# Altium footprint library preamp.PcbLib: 26 footprints (part 1 of 2)
Each footprint in its own frame and in the unit in brackets; x right, y up, seen from the top. Pads: shape width x height; smd on the part's side, far side on the other; paste and mask are expansions set on the pad; w line width, h text height; cw(c..) or ccw(c..) is an arc to the next point about the centre after c.
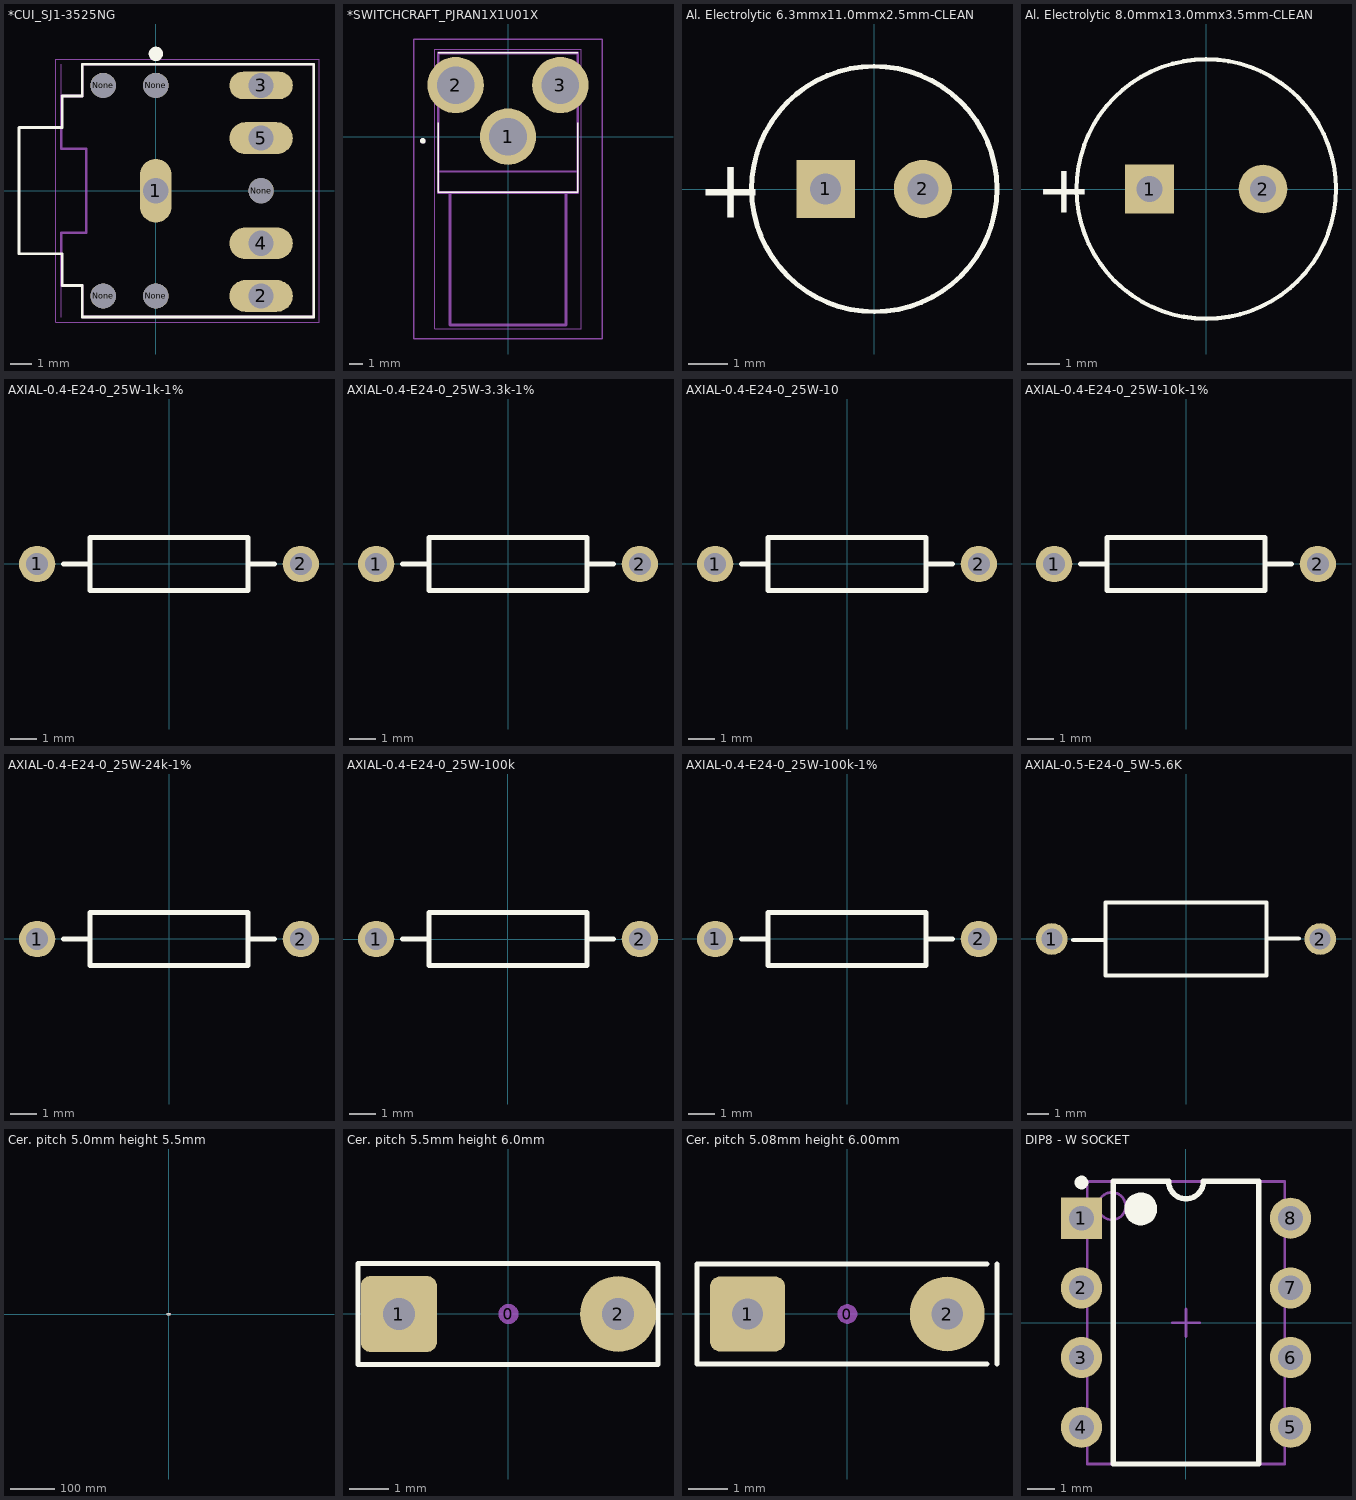
[diagram p0: the footprints below, top view; thin cyan lines are the x and y axes]

## *CUI_SJ1-3525NG [mm]
pads (10):
  oval 1.508x3.016 hole 1.2: 1(0,0)
  oval 3.016x1.508 hole 1.2: 2(5,-5) 4(5,-2.5) 5(5,2.5)
  oval 3.016x1.308 hole 1.2: 3(5,5)
  round 1.2 hole 1.2 unplated: None(-2.5,-5) None(-2.5,5) None(0,-5) None(0,5) None(5,0)
Top Overlay:
  circle w0.34: c0,6.5 r0.17
  lines w0.127: -6.5,-3 -6.5,3 ; -6.477,-3 -4.516,-3 ; -6.477,3 -4.516,3 ; -4.438,-4.5 -4.438,-3 ; -4.438,3 -4.438,4.5 ; -4.4,-4.5 -3.5,-4.5 -3.5,-6 7.5,-6 7.5,6 -3.5,6 -3.5,4.5 -4.4,4.5
Mechanical 1:
  lines w0: -4.5,-6 -4.5,-2 -3.3,-2 -3.3,2 -4.5,2 -4.5,6 ; -0.4,-0.75 0.4,-0.75 0.4,0.75 -0.4,0.75 -0.4,-0.75 ; 4.25,-5.4 4.25,-4.6 5.75,-4.6 5.75,-5.4 4.25,-5.4 ; 4.25,-2.9 4.25,-2.1 5.75,-2.1 5.75,-2.9 4.25,-2.9 ; 4.25,2.1 4.25,2.9 5.75,2.9 5.75,2.1 4.25,2.1 ; 4.25,4.6 4.25,5.4 5.75,5.4 5.75,4.6 4.25,4.6
Mechanical 4:
  lines w0.127: -4.5,-4.5 -4.5,-2 ; -4.5,-4.5 -3.5,-4.5 ; -4.5,-4.5 -4.5,-2 ; -4.5,-4.5 -3.5,-4.5 ; -4.5,-2 -3.3,-2 ; -4.5,-2 -3.3,-2 ; -4.5,2 -4.5,4.5 ; -4.5,2 -3.3,2 ; -4.5,2 -4.5,4.5 ; -4.5,2 -3.3,2 ; -4.5,4.5 -3.5,4.5 ; -4.5,4.5 -3.5,4.5 ; -3.5,-6 7.5,-6 ; -3.5,-6 -3.5,-4.5 ; -3.5,-6 7.5,-6 ; -3.5,-6 -3.5,-4.5 ; -3.5,4.5 -3.5,6 ; -3.5,4.5 -3.5,6 ; -3.5,6 7.5,6 ; -3.5,6 7.5,6 ; -3.3,-2 -3.3,2 ; -3.3,-2 -3.3,2 ; 7.5,-6 7.5,6 ; 7.5,-6 7.5,6
  text "PCB edge" at -2.667,6.223 h1.88
Mechanical 16:
  lines w0.05: -4.75,-6.25 7.75,-6.25 7.75,6.25 -4.75,6.25 -4.75,-6.25
3D body "SJ1-3525NG.step": height 5.5, standoff -3.3, extent -6.517,-6.031 7.533,5.969

## *SWITCHCRAFT_PJRAN1X1U01X [mm]
pads (3):
  round 4.039 hole 2.693: 1(0,0) 2(-3.75,3.7) 3(3.75,3.7)
Top Overlay:
  circle w0.2: c-6.11,-0.3 r0.1
  lines w0.1: -5,1 -5,-4 5,-4 5,1 ; -5,6 5,6
Mechanical 1:
  lines w0: -4.25,2.45 -3.25,2.45 -3.25,4.95 -4.25,4.95 -4.25,2.45 ; -1.25,-0.65 1.25,-0.65 1.25,0.65 -1.25,0.65 -1.25,-0.65 ; 3.25,2.45 4.25,2.45 4.25,4.95 3.25,4.95 3.25,2.45
Mechanical 4:
  circle w0.2: c-6.11,-0.3 r0.1
  circle w0.2: c-6.11,-0.3 r0.1
  lines w0.127: -5,-4 -4.15,-4 ; -5,-4 -5,-2.5 ; -5,-4 -4.15,-4 ; -5,-4 -5,-2.5 ; -5,-2.5 5,-2.5 ; -5,-2.5 -5,6 ; -5,-2.5 5,-2.5 ; -5,-2.5 -5,6 ; -5,6 5,6 ; -5,6 5,6 ; -4.15,-13.5 4.15,-13.5 ; -4.15,-13.5 -4.15,-4 ; -4.15,-13.5 4.15,-13.5 ; -4.15,-13.5 -4.15,-4 ; -4.15,-4 4.15,-4 ; -4.15,-4 4.15,-4 ; 4.15,-13.5 4.15,-4 ; 4.15,-13.5 4.15,-4 ; 4.15,-4 5,-4 ; 4.15,-4 5,-4 ; 5,-4 5,-2.5 ; 5,-4 5,-2.5 ; 5,-2.5 5,6 ; 5,-2.5 5,6
  text "PCB EDGE" at -3.75,-2.62 h1.88
  text "PCB EDGE" at -3.75,-2.62 h1.88
Mechanical 13:
  lines w0.2: -4.15,-4 -4.15,-13.5 4.15,-13.5 4.15,-4 ; -5,-4 -5,6 5,6 5,-4 -5,-4
Mechanical 15:
  lines w0.1: -6.769,-14.5 -6.769,7 6.769,7 6.769,-14.5 -6.769,-14.5
Mechanical 16:
  lines w0.05: -5.25,-13.75 5.25,-13.75 5.25,6.25 -5.25,6.25 -5.25,-13.75
3D body "PJRAN1X1U01X.STEP": height 12.97, standoff -4.05, extent -5.004,-13.564 5.004,5.944
3D body "PJRAN1X1U01X.STEP": height 13, standoff -4.02, extent -5.054,-13.564 4.953,5.944

## Al. Electrolytic 6.3mmx11.0mmx2.5mm-CLEAN [mm]
pads (2):
  rect 1.5x1.5 hole 0.8: 1(-1.25,0)
  round 1.5 hole 0.8: 2(1.25,0)
Top Overlay:
  lines w0.127: 3.15,0 cw(c0,0) 3.15,0.008
  text "+" at -4.55,-0.737 h1.5
3D body "User Library-Cap-EL(6_3x11-2_5)-brown.step": height 10.9, standoff -3.3, extent -3.151,-3.149 3.151,3.149

## Al. Electrolytic 8.0mmx13.0mmx3.5mm-CLEAN [mm]
pads (2):
  rect 1.5x1.5 hole 0.8: 1(-1.75,0)
  round 1.5 hole 0.8: 2(1.75,0)
Top Overlay:
  lines w0.127: 4,0 cw(c0,0) 4,0.01
  text "+" at -5.25,-0.737 h1.5
3D body "User Library-Cap-EL(8x13-3_5)-blue.step": height 17.08, standoff -5.48, extent -11.128,-11.84 11.927,12.34

## AXIAL-0.4-E24-0_25W-1k-1% [mm]
pads (2):
  round 1.4 hole 0.85: 1(-5.08,0) 2(5.08,0)
Top Overlay:
  lines w0.2: -4.064,0 -3.048,0 ; 3.048,0 4.064,0 ; -3.048,-1.016 3.048,-1.016 3.048,1.016 -3.048,1.016 -3.048,-1.016
3D body "User Library-Res40-Axial 0_25W-1K-1%.step": height 2.41, standoff -2, extent -5.38,-1.2 5.38,1.2

## AXIAL-0.4-E24-0_25W-3.3k-1% [mm]
pads (2):
  round 1.4 hole 0.85: 1(-5.08,0) 2(5.08,0)
Top Overlay:
  lines w0.2: -4.064,0 -3.048,0 ; 3.048,0 4.064,0 ; -3.048,-1.016 3.048,-1.016 3.048,1.016 -3.048,1.016 -3.048,-1.016
3D body "User Library-Res40-Axial 0_25W-3K3-1%.step": height 2.41, standoff -2, extent -5.38,-1.2 5.38,1.2
3D body: height 2.41, standoff -2, extent 0.025,0.076 0.025,0.076
3D body "User Library-Res40-Axial 0_25W-1K2-1%.step": height 2.41, standoff -2, extent -5.38,-1.2 5.38,1.2

## AXIAL-0.4-E24-0_25W-10 [mm]
pads (2):
  round 1.4 hole 0.85: 1(-5.08,0) 2(5.08,0)
Top Overlay:
  lines w0.2: -4.064,0 -3.048,0 ; 3.048,0 4.064,0 ; -3.048,-1.016 3.048,-1.016 3.048,1.016 -3.048,1.016 -3.048,-1.016
3D body "Res40-Axial 0_25W-10R.step": height 2.41, standoff -2, extent -5.405,-1.225 5.355,1.175

## AXIAL-0.4-E24-0_25W-10k-1% [mm]
pads (2):
  round 1.4 hole 0.85: 1(-5.08,0) 2(5.08,0)
Top Overlay:
  lines w0.2: -4.064,0 -3.048,0 ; 3.048,0 4.064,0 ; -3.048,-1.016 -3.048,1.016 3.048,1.016 3.048,-1.016 -3.048,-1.016
3D body "User Library-Res40-Axial 0_25W-10K-1%.step": height 2.41, standoff -2, extent -5.38,-1.2 5.38,1.2

## AXIAL-0.4-E24-0_25W-24k-1% [mm]
pads (2):
  round 1.4 hole 0.85: 1(-5.08,0) 2(5.08,0)
Top Overlay:
  lines w0.2: -4.064,0 -3.048,0 ; 3.048,0 4.064,0 ; -3.048,-1.016 -3.048,1.016 3.048,1.016 3.048,-1.016 -3.048,-1.016
3D body "User Library-Res40-Axial 0_25W-24K-1%.step": height 2.41, standoff -2, extent -5.38,-1.2 5.38,1.2

## AXIAL-0.4-E24-0_25W-100k [mm]
pads (2):
  round 1.4 hole 0.85: 1(-5.08,0) 2(5.08,0)
Top Overlay:
  lines w0.2: -4.064,0 -3.048,0 ; 3.048,0 4.064,0 ; -3.048,-1.016 -3.048,1.016 3.048,1.016 3.048,-1.016 -3.048,-1.016
3D body "Res40-Axial 0_25W-100K.step": height 2.41, standoff -2, extent -5.405,-1.225 5.355,1.175

## AXIAL-0.4-E24-0_25W-100k-1% [mm]
pads (2):
  round 1.4 hole 0.85: 1(-5.08,0) 2(5.08,0)
Top Overlay:
  lines w0.2: -4.064,0 -3.048,0 ; 3.048,0 4.064,0 ; -3.048,-1.016 -3.048,1.016 3.048,1.016 3.048,-1.016 -3.048,-1.016
3D body "User Library-Res40-Axial 0_25W-100K-1%.step": height 2.41, standoff -2, extent -5.38,-1.2 5.38,1.2

## AXIAL-0.5-E24-0_5W-5.6K [mm]
pads (2):
  round 1.5 hole 1: 1(-6.35,0) 2(6.35,0)
Top Overlay:
  lines w0.2: -5.334,-0.051 -4.953,-0.051 -4.191,-0.051 -3.81,-0.051 ; 3.81,0.025 5.334,0.025 ; -3.81,-1.727 3.81,-1.727 3.81,1.727 -3.81,1.727 -3.81,-1.727
3D body "Res50-Axial 0_5W-5_6K.step": height 4.3, standoff -5.08, extent -6.725,-1.875 6.725,1.875
3D body "Res50-Axial 0_5W-5_6K.step": height 4.3, standoff -5.08, extent -6.725,-1.875 6.725,1.875

## Cer. pitch 5.0mm height 5.5mm [mm]
pads (3):
  round 0.508 on Mech15: 0(0,0)
  rrect25% 1.905x1.905 hole 0.8: 1(-2.5,0)
  round 1.905 hole 0.8: 2(2.5,0)
Top Overlay:
  lines w0.127: -3.5,-1.27 3.5,-1.27 3.5,1.27 -3.5,1.27 -3.5,-1.27
Mechanical 13:
  lines w0.127: -2.5,-0.3 cw(c-2.5,0) -2.5,0.3 ; -2.5,-0.217 ccw(c-1.896,-0.22) -2.236,-0.718 ; -2.5,-0.217 -2.5,0.217 cw(c-1.896,0.221) -2.232,0.723 -2.23,0.724 -2.206,0.741 ; -2.25,-0.523 -2.248,-0.511 -2.24,-0.497 -2.227,-0.48 -2.21,-0.461 -2.186,-0.439 -2.157,-0.415 -2.122,-0.387 -2.083,-0.357 -2.046,-0.327 -2.006,-0.292 -1.995,-0.281 -1.983,-0.268 -1.972,-0.254 -1.962,-0.238 -1.958,-0.229 -1.955,-0.218 -1.954,-0.211 -1.953,-0.203 ; -2.25,0.523 cw(c-3.279,-0.727) -1.953,0.203 ; -2.232,-0.723 -2.225,-0.727 -2.205,-0.742 ; 2.205,0.742 2.225,0.727 2.232,0.723 ; 2.206,-0.741 2.23,-0.724 2.232,-0.723 ccw(c1.896,-0.221) 2.5,-0.217 2.5,0.217 ccw(c1.896,0.22) 2.236,0.718 ; 2.25,-0.523 2.243,-0.502 2.225,-0.477 2.187,-0.44 2.134,-0.397 2.073,-0.349 2.007,-0.293 1.986,-0.271 1.967,-0.246 1.956,-0.223 1.953,-0.203 ; 2.25,0.523 2.24,0.497 2.21,0.461 2.157,0.415 2.083,0.357 2.046,0.327 2.006,0.292 1.983,0.268 1.962,0.238 1.955,0.218 1.953,0.203 ; 2.5,-0.3 ccw(c2.5,0) 2.5,0.3 ; -1.953,-0.203 -1.953,0.203 ; -1.953,-0.203 1.953,-0.203 ; -1.953,0.203 1.953,0.203 ; -1.8,-1.003 cw(c-1.8,-0.553) -2.25,-0.553 -2.25,0.553 cw(c-1.8,0.553) -1.8,1.003 ; -1.8,-1.003 cw(c-1.777,-0.913) -1.867,-0.935 cw(c9.111,-1.292) -1.819,-0.203 -1.819,0.203 ccw(c-168.083,-10.401) -1.867,0.935 cw(c-1.777,0.912) -1.8,1.003 ; -1.8,-1.003 1.8,-1.003 ; -1.8,1.003 1.8,1.003 ; 1.8,-1.003 ccw(c1.8,-0.553) 2.25,-0.553 2.25,0.553 ccw(c1.8,0.553) 1.8,1.003 ; 1.8,-1.003 ccw(c1.777,-0.912) 1.867,-0.935 cw(c168.269,10.414) 1.819,-0.203 1.819,0.203 ccw(c-9.111,1.292) 1.867,0.935 ccw(c1.777,0.913) 1.8,1.003 ; 1.953,-0.203 1.953,0.203
3D body "TDK FK24 ceramic capacitor.STEP": height 5.47, standoff -2.54, extent -2.797,-1.003 2.798,1.003

## Cer. pitch 5.5mm height 6.0mm [mm]
pads (3):
  round 0.508 on Mech15: 0(0,0)
  rrect25% 1.905x1.905 hole 0.8: 1(-2.75,0)
  round 1.905 hole 0.8: 2(2.75,0)
Top Overlay:
  lines w0.127: -3.775,-1.27 -3.775,-0.416 -3.775,0.416 -3.775,1.27 3.75,1.27 3.75,-0.441 3.75,-1.27 -3.775,-1.27
3D body "CERAMICO_P6mm-D5mm.step": height 5.74, standoff -2.92, extent -2.95,-1.1 2.95,1.1

## Cer. pitch 5.08mm height 6.00mm [mm]
pads (3):
  round 0.508 on Mech15: 0(0,0)
  rrect25% 1.905x1.905 hole 0.8: 1(-2.54,0)
  round 1.905 hole 0.8: 2(2.54,0)
Top Overlay:
  lines w0.127: 3.556,-1.27 -3.825,-1.27 -3.825,1.27 3.556,1.27 ; 3.806,-1.27 3.806,-0.635 3.806,0.635 3.806,1.27
3D body "Ceramic Disc Capacitor 0_2in pitch.step": height 7.5, standoff -1, extent -3.525,-0.898 3.474,0.798

## DIP8 - W SOCKET [mm]
pads (8):
  rect 1.5x1.5 hole 0.9: 1(-3.81,3.81)
  round 1.5 hole 0.9: 2(-3.81,1.27) 3(-3.81,-1.27) 4(-3.81,-3.81) 5(3.81,-3.81) 6(3.81,-1.27) 7(3.81,1.27) 8(3.81,3.81)
Top Overlay:
  circle w0.25: c-3.81,5.11 r0.125
  circle w0.6: c-1.65,4.15 r0.3
  lines w0.2: -2.65,-5.15 -2.65,5.15 -0.635,5.15 ccw(c0,5.15) 0.635,5.15 2.65,5.15 2.65,-5.15 -2.65,-5.15
Mechanical 13:
  circle w0.1: c-2.7,4.25 r0.5
  lines w0.1: -3.6,-5.15 -3.6,5.15 3.6,5.15 3.6,-5.15 -3.6,-5.15
Mechanical 15:
  lines w0.1: -0.5,0 0.5,0 ; 0,-0.5 0,0.5
3D body "Socket_DIP8.stp": height 4.75, standoff -3.45, extent -5,-5.061 5,5.061
3D body "DIP8P-M01.step": height 7.66, standoff 0.3, extent -3.935,-4.7 3.935,4.7